# Altium footprint library 1_to_5_Pin.PcbLib: 174 footprints (part 4 of 11)
Each footprint in its own frame and in the unit in brackets; x right, y up, seen from the top. Pads: shape width x height; smd on the part's side, far side on the other; paste and mask are expansions set on the pad; w line width, h text height; cw(c..) or ccw(c..) is an arc to the next point about the centre after c.
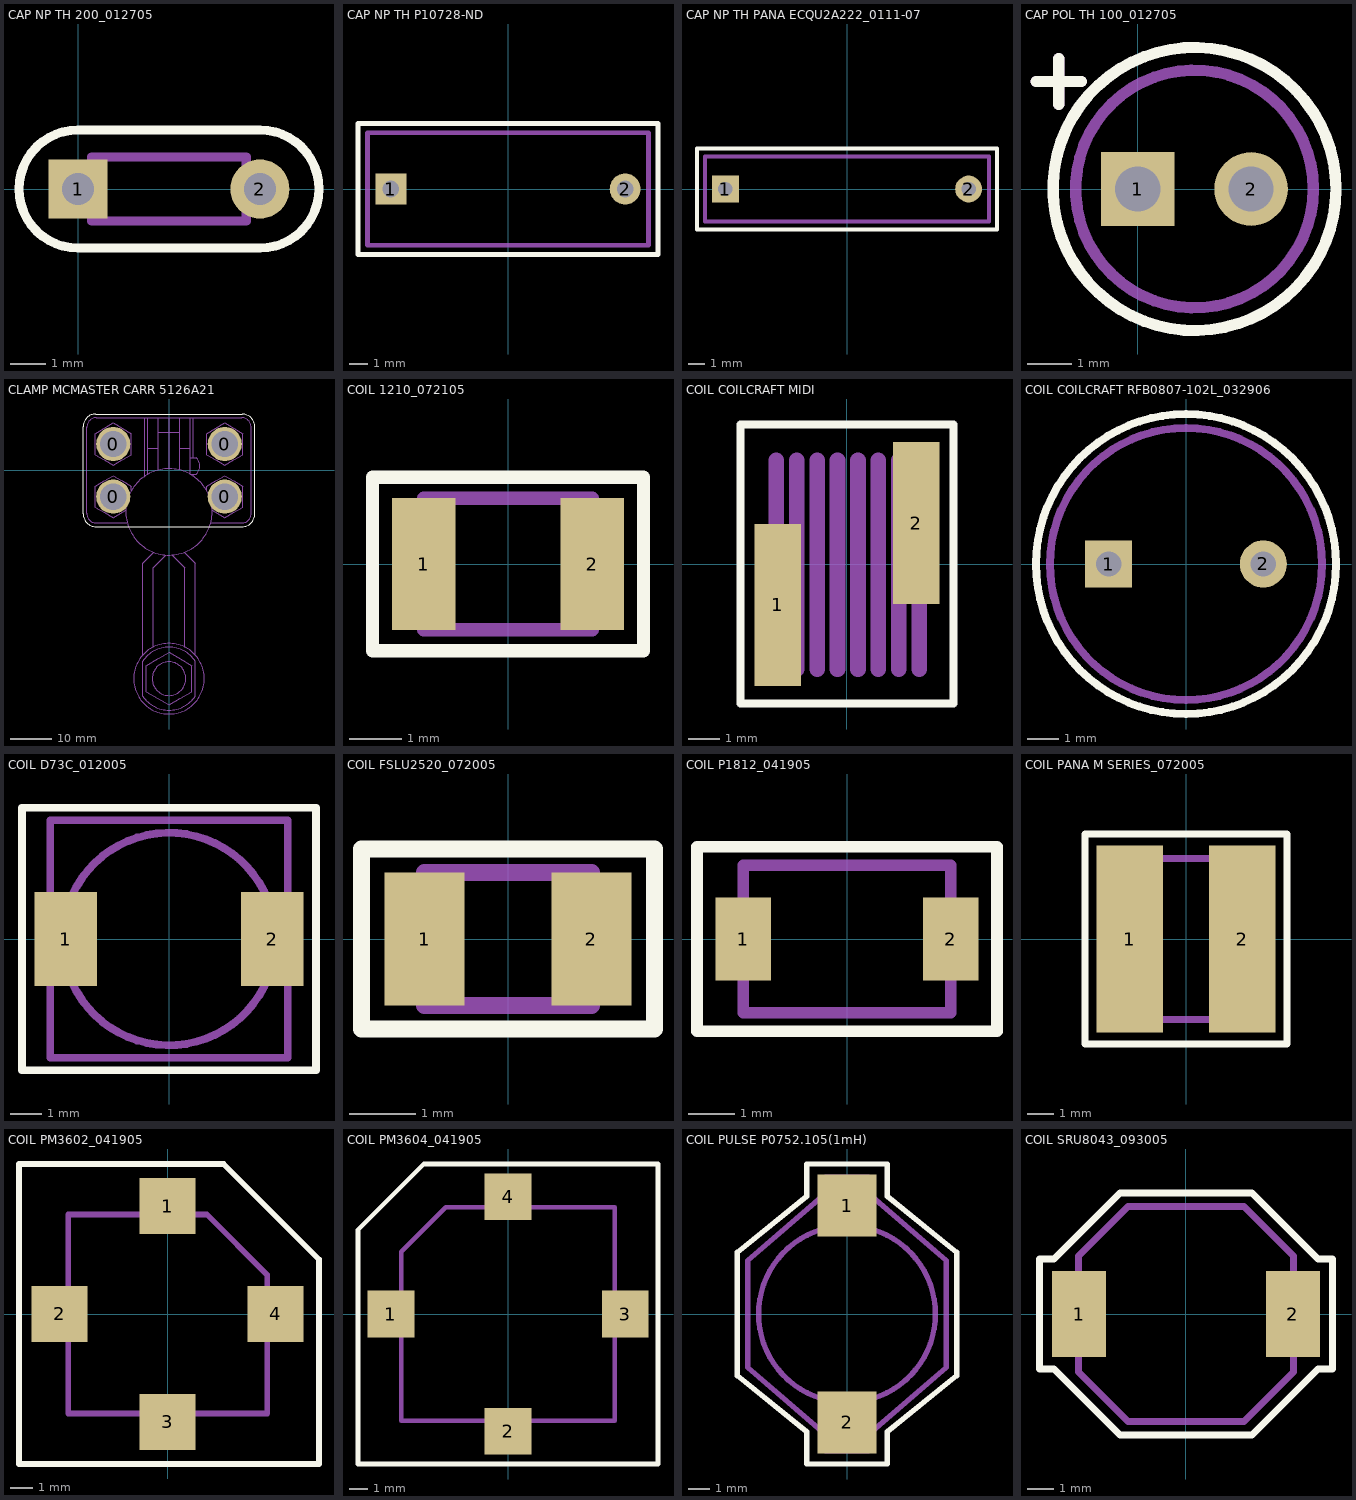
[diagram p3: the footprints below, top view; thin cyan lines are the x and y axes]

## CAP NP TH 200_012705 [mil] "TH"
height 250
pads (2):
  rect 65x65 hole 35: 1(0,0)
  round 65 hole 35: 2(200,0)
Top Overlay:
  lines w10: 0,-65 cw(c0,0) 0,65 200,65 cw(c200,0) 200,-65 0,-65
Assembly Outline:
  lines w10: 15,-35 185,-35 185,35 15,35 15,0 15,-35
Assembly Designator:
  text ".Designator" at 50,-20 h40
Assembly Comment:
  text ".Comment" at -20,-90 h40

## CAP NP TH P10728-ND [mil] "TH"
height 511.81
pads (2):
  rect 65x65 hole 35: 1(-246.06,0)
  round 65 hole 35: 2(246.06,0)
Top Overlay:
  lines w10: -314.96,-137.8 -314.96,0 -314.96,137.8 243.11,137.8 314.96,137.8 314.96,0 314.96,-137.8 -243.11,-137.8 -314.96,-137.8
Assembly Outline:
  lines w10: -295.28,-118.11 -295.28,0 -295.28,118.11 0,118.11 295.28,118.11 295.28,0 295.28,-118.11 0,-118.11 -295.28,-118.11
Assembly Designator:
  text ".Designator" at -71.85,-13.78 h40
Assembly Comment:
  text ".Comment" at -195.87,-84.65 h40

## CAP NP TH PANA ECQU2A222_0111-07 [mil] "TH"
height 413.39
pads (2):
  rect 65x65 hole 35: 1(-295.28,0)
  round 65 hole 35: 2(295.28,0)
Top Overlay:
  lines w10: -364.17,-98.43 -39.37,-98.43 0,-98.43 39.37,-98.43 364.17,-98.43 364.17,0 364.17,98.43 39.37,98.43 0,98.43 -39.37,98.43 -364.17,98.43 -364.17,0 -364.17,-98.43
Assembly Outline:
  lines w10: 68.9,78.74 0,78.74 ; 0,78.74 344.49,78.74 344.49,0 344.49,-78.74 0,-78.74 -344.49,-78.74 -344.49,0 -344.49,78.74 0,78.74
Assembly Designator:
  text ".Designator" at -49.21,-19.68 h40
Assembly Comment:
  text ".Comment" at -216.54,-147.64 h40

## CAP POL TH 100_012705 [mil] "TH"
height 250
pads (2):
  rect 65x65 hole 40: 1(0,0)
  round 65 hole 40: 2(100,0)
Top Overlay:
  circle w10: c50,0 r125
  lines w10: -90,95 -50,95 ; -70,75 -70,115
Assembly Outline:
  circle w10: c50,0 r105
  lines w10: -90,95 -50,95 ; -70,75 -70,115
Assembly Designator:
  text ".Designator" at 0,-20 h40
Assembly Comment:
  text ".Comment" at -50,-155 h40

## CLAMP MCMASTER CARR 5126A21 [mil] "TH"
height 4200
pads (4):
  round 325 hole 250: 0(-530,-250) 0(-530,250) 0(530,-250) 0(530,250)
Top Overlay:
  lines w10: -815.42,415 -815.42,-414.58 ccw(c-695,-414.58) -695,-535 ; -815,415 cw(c-694.58,415) -694.58,535.42 695,535.42 ; -695,-535.42 694.58,-535.42 ccw(c694.58,-415) 815,-415 ; 695,535 cw(c695,414.58) 815.42,414.58 815.42,-415
Assembly Outline:
  circle w10: c530,250 r103.21
  circle w10: c530,-250 r103.21
  circle w10: c-530,-250 r103.21
  circle w10: c-530,250 r103.21
  circle w10: c0,-395 r410
  circle w10: c0,-1980 r335.6
  circle w10: c0,-1980 r160
  lines w10: -409.69,-380.54 -530,-450 -616.6,-400 -703.21,-350 -703.21,-250 -703.21,-150 -616.6,-100 -530,-50 -443.4,-100 -356.79,-150 -356.79,-190 ; -400,-500 -690,-500 cw(c-690,-410) -780,-410 -780,410 cw(c-690,410) -690,500 -230,500 ; -250,-1755 -250,-885 -220,-855 -145,-780 ; -230,-55 -230,500 ; -200,-35 -200,500 ; -200,210 -100,210 ; -150,-1680 -150,-925 ; -150,-1055 -150,-925 ; -100,5 -100,500 ; -100,360 100,360 ; -30,-805 -150,-925 ; 0,15 0,500 ; 30,-805 150,-925 150,-1680 ; 100,5 100,500 ; 100,210 200,210 ; 145,-780 220,-855 250,-885 250,-1755 ; 230,-55 230,-35 ; 230,500 230,120 200,120 260,120 cw(c182.5,42.5) 260,-35 200,-35 200,500 ; 356.79,-190 356.79,-150 443.4,-100 530,-50 616.6,-100 703.21,-150 ; 400,-500 690,-500 ccw(c690,-410) 780,-410 780,410 ccw(c690,410) 690,500 200,500 ; 409.69,-380.54 530,-450 616.6,-400 703.21,-350 703.21,-250 ; -356.79,250 -356.79,350 ; -356.79,250 -356.79,150 -443.4,100 -530,50 -616.6,100 -703.21,150 -703.21,250 -703.21,350 -616.6,400 -530,450 -443.4,400 -356.79,350 ; -356.79,250 -356.79,350 ; -230,500 -200,500 ; -200,500 -100,500 ; -100,500 0,500 ; 0,500 100,500 ; 100,500 200,500 ; 216.51,-1980 216.51,-2105 108.25,-2167.5 0,-2230 -108.25,-2167.5 -216.51,-2105 -216.51,-1980 -216.51,-1855 -108.25,-1792.5 0,-1730 108.25,-1792.5 216.51,-1855 ; 216.51,-1980 216.51,-1855 ; 216.51,-1980 216.51,-1855 ; 703.21,-250 703.21,-150 ; 703.21,-250 703.21,-150 ; 703.21,250 703.21,350 ; 703.21,250 703.21,150 616.6,100 530,50 443.4,100 356.79,150 356.79,250 356.79,350 443.4,400 530,450 616.6,400 703.21,350 ; 703.21,250 703.21,350 ; -250,-2144.83 ccw(c0,-1980) 250,-2144.83 250,-1815.17 ccw(c0,-1980) -250,-1815.17 -250,-2144.83

## COIL 1210_072105 [mm] "SMT"
height 2
pads (2):
  rect 1.2x2.5 smd: 1(-1.6,0) 2(1.6,0)
Top Overlay:
  lines w0.254: -2.575,-1.65 0,-1.65 2.575,-1.65 2.575,0 2.575,1.65 0,1.65 -2.575,1.65 -2.575,0 -2.575,-1.65
Assembly Outline:
  lines w0.254: -1.6,0 -1.6,1.25 ; -1.6,1.25 -1.6,-1.25 1.6,-1.25 1.6,1.25 -1.6,1.25
Assembly Designator:
  text ".Designator" at -0.75,-0.475 h1.02
Assembly Comment:
  text ".Comment" at -2.75,-3.025 h1.02

## COIL COILCRAFT MIDI [mm] "SMT"
height 4.2
pads (2):
  rect 1.48x5.16 smd: 1(-2.2,-1.3) 2(2.2,1.3)
Top Overlay:
  lines w0.254: -3.4,-4.45 -3.4,-3.5 -3.4,4.45 0.05,4.45 3.4,4.45 3.4,3.5 3.4,-4.45 -0.05,-4.45 -3.4,-4.45
Assembly Outline:
  lines w0.5: -2.25,-3.35 -2.25,3.3 ; -1.6,-3.35 -1.6,3.3 ; -0.95,-3.35 -0.95,3.3 ; -0.3,-3.35 -0.3,3.3 ; 0.35,-3.35 0.35,3.3 ; 1,-3.35 1,3.3 ; 1.65,-3.35 1.65,3.3 ; 2.3,-3.35 2.3,3.3
Assembly Designator:
  text ".Designator" at -0.8,-0.5 h1.02
Assembly Comment:
  text ".Comment" at -2.6,-5.95 h1.02

## COIL COILCRAFT RFB0807-102L_032906 [mil] "TH"
height 295.28
pads (2):
  rect 60x60 hole 32.01: 1(-98.43,0)
  round 60 hole 32.01: 2(98.43,0)
Top Overlay:
  circle w10: c0,0 r190.94
Assembly Outline:
  circle w10: c0,0 r173.23
Assembly Designator:
  text ".Designator" at -30.51,-18.7 h40
Assembly Comment:
  text ".Comment" at -113.19,-92.52 h40

## COIL D73C_012005 [mm] "SMT"
height 5.334
pads (2):
  rect 2x3 smd: 1(-3.3,0) 2(3.3,0)
Top Overlay:
  lines w0.254: -4.7,-4.2 4.7,-4.2 4.7,0.1 4.7,4.2 -4.7,4.2 -4.7,-4.2
Assembly Outline:
  circle w0.254: c0,0 r3.4
  lines w0.254: -3.8,-1 -4.1,-1 -4.1,1 -3.8,1 -3.8,0 ; 3.8,-1 4.1,-1 4.1,1 3.8,1 3.8,0 ; -3.8,0 -3.8,-3.8 3.8,-3.8 3.8,3.8 -3.8,3.8 -3.8,0
Assembly Designator:
  text ".Designator" at -1.143,1.397 h1.02
Assembly Comment:
  text ".Comment" at -2.794,-0.381 h1.02

## COIL FSLU2520_072005 [mm] "SM"
height 1.8
pads (2):
  rect 1.2x2 smd: 1(-1.25,0) 2(1.25,0)
Top Overlay:
  lines w0.254: -2.2,-1.35 0,-1.35 2.2,-1.35 2.2,0 2.2,1.35 0,1.35 -2.2,1.35 -2.2,0 -2.2,-1.35
Assembly Outline:
  lines w0.254: 0,1 -1.25,1 ; -1.25,1 1.25,1 1.25,-1 -1.25,-1 -1.25,1
Assembly Designator:
  text ".Designator" at -0.75,-0.475 h1.02
Assembly Comment:
  text ".Comment" at -3.025,-2.475 h1.02

## COIL P1812_041905 [mm] "SMT"
height 3.175
pads (2):
  rect 1.2x1.8 smd: 1(-2.25,0) 2(2.25,0)
Top Overlay:
  lines w0.254: -3.25,-2 3.25,-2 3.25,2 -0.85,2 -3.25,2 -3.25,-2
Assembly Outline:
  lines w0.254: -2.25,-1.6 2.25,-1.6 2.25,1.6 -2.25,1.6 -2.25,-1.6
Assembly Designator:
  text ".Designator" at -1.488,-0.381 h1.02
Assembly Comment:
  text ".Comment" at -3.139,-2.667 h1.02

## COIL PANA M SERIES_072005 [mm] "SMT"
height 2
pads (2):
  rect 2.5x7 smd: 1(-2.1,0) 2(2.1,0)
Top Overlay:
  lines w0.254: -3.775,-3.925 3.775,-3.925 3.775,0 3.775,3.925 0,3.925 -3.775,3.925 -3.775,0 -3.775,-3.925
Assembly Outline:
  lines w0.254: -3,-1.8 -3,0 -3,1.8 -1.8,3 0,3 1.8,3 3,1.8 3,-1.8 1.8,-3 -1.8,-3 -3,-1.8
Assembly Designator:
  text ".Designator" at -0.85,-0.375 h1.02
Assembly Comment:
  text ".Comment" at -3.4,-5.125 h1.02

## COIL PM3602_041905 [mil] "SMT"
height 220
pads (4):
  rect 100x100 smd: 1(0,192.5) 2(-192.5,0) 3(0,-192.5) 4(192.5,0)
Top Overlay:
  lines w10: -265,-267.5 0,-267.5 270,-267.5 270,97.5 100,267.5 -265,267.5 -265,-267.5
Assembly Outline:
  lines w10: -177.5,-40 -227.5,-40 -227.5,0 -227.5,40 -177.5,40 ; -177.5,0 -177.5,-177.5 ; -40,-177.5 -40,-227.5 0,-227.5 40,-227.5 40,-177.5 ; -40,177.5 -40,227.5 0,227.5 40,227.5 40,177.5 ; 177.5,-40 227.5,-40 227.5,0 227.5,40 177.5,40 ; -177.5,-177.5 177.5,-177.5 177.5,70 70,177.5 -177.5,177.5 -177.5,-177.5
Assembly Designator:
  text ".Designator" at -75,60 h40
Assembly Comment:
  text ".Comment" at -95,-115 h40

## COIL PM3604_041905 [mil] "SMT"
height 250
pads (4):
  rect 100x100 smd: 1(-250,0) 2(0,-250) 3(250,0) 4(0,250)
Top Overlay:
  lines w10: -320,-320 320,-320 320,-265 320,0 320,270 320,320 -180,320 -320,180 -320,0 -320,-320
Assembly Outline:
  lines w10: -227.5,-40 -277.5,-40 -277.5,0 -277.5,40 -227.5,40 ; -40,-227.5 -40,-277.5 0,-277.5 40,-277.5 40,-227.5 ; -40,227.5 -40,277.5 0,277.5 40,277.5 40,227.5 ; 227.5,-40 277.5,-40 277.5,0 277.5,40 227.5,40 ; -227.5,-227.5 -227.5,-177.5 -227.5,70 -227.5,132.5 -132.5,227.5 -70,227.5 177.5,227.5 227.5,227.5 227.5,177.5 227.5,-177.5 227.5,-227.5 177.5,-227.5 -177.5,-227.5 -227.5,-227.5
Assembly Designator:
  text ".Designator" at -101.69,64.77 h40
Assembly Comment:
  text ".Comment" at -121.69,-110.23 h40

## COIL PULSE P0752.105(1mH) [mil] "SMT"
height 169.29
pads (2):
  rect 110x115 smd: 1(0,202.5) 2(0,-202.5)
Top Overlay:
  lines w10: -205,-115 -205,0 -205,115 -75,220 -75,280 0,280 75,280 75,220 205,115 205,0 205,-115 75,-220 75,-280 0,-280 -75,-280 -75,-220 -205,-115
Assembly Outline:
  circle w10: c0,0 r165
  lines w10: -40,-225 -40,-255 0,-255 40,-255 40,-225 ; -40,-225 -185,-100 -185,0 -185,100 -40,225 ; -40,-225 0,-225 40,-225 ; -40,225 -40,255 0,255 40,255 40,225 ; -40,225 0,225 40,225 ; 40,-225 185,-100 185,0 185,100 40,225
Assembly Designator:
  text ".Designator" at -40,-10 h40
Assembly Comment:
  text ".Comment" at -130,-70 h40

## COIL SRU8043_093005 [mm] "SMT"
height 4.3
pads (2):
  rect 2x3.2 smd: 1(-3.975,0) 2(3.975,0)
Top Overlay:
  lines w0.254: -5.45,-2.05 -5.45,0 -5.45,2.05 -4.9,2.05 -2.45,4.5 0,4.5 2.45,4.5 4.9,2.05 5.45,2.05 5.45,0 5.45,-2.05 4.9,-2.05 2.45,-4.5 0,-4.5 -2.45,-4.5 -4.9,-2.05 -5.45,-2.05
Assembly Outline:
  lines w0.254: -4,-2.15 -2.15,-4 2.15,-4 4,-2.15 4,2.15 2.15,4 -2.15,4 -4,2.15 -4,0 -4,-2.15
Assembly Designator:
  text ".Designator" at -1.1,-0.35 h1.02
Assembly Comment:
  text ".Comment" at -4.65,-5.8 h1.02